# Altium schematic symbol library SCH - MCU - ATTINY - MICROCHIP ATTINY427 VQFN24.SchLib: 1 symbol
Pins are listed as number, name and electrical type; pins without a type are passive.

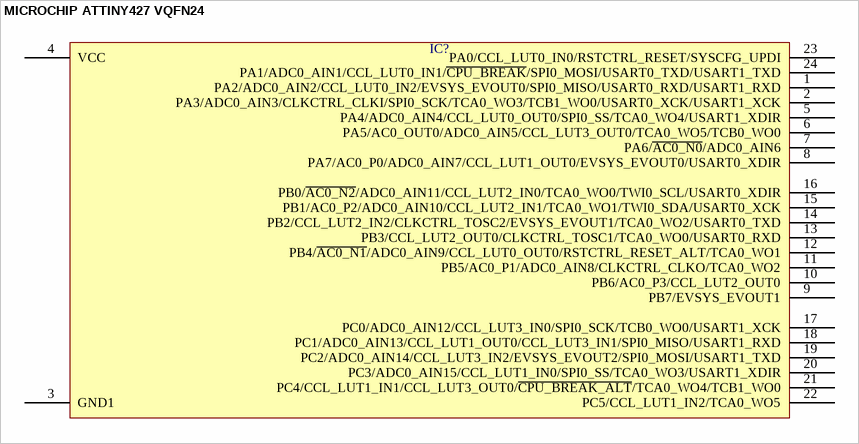
[diagram p0: symbol MICROCHIP ATTINY427 VQFN24]

## MICROCHIP ATTINY427 VQFN24
designator IC?  (value not drawn)
pins: 1 PA2/ADC0_AIN2/CCL_LUT0_IN2/EVSYS_EVOUT0/SPI0_MISO/USART0_RXD/USART1_RXD, 2 PA3/ADC0_AIN3/CLKCTRL_CLKI/SPI0_SCK/TCA0_WO3/TCB1_WO0/USART0_XCK/USART1_XCK, 3 GND1, 4 VCC, 5 PA4/ADC0_AIN4/CCL_LUT0_OUT0/SPI0_SS/TCA0_WO4/USART1_XDIR, 6 PA5/AC0_OUT0/ADC0_AIN5/CCL_LUT3_OUT0/TCA0_WO5/TCB0_WO0, 7 PA6/~{AC0_N0}/ADC0_AIN6, 8 PA7/AC0_P0/ADC0_AIN7/CCL_LUT1_OUT0/EVSYS_EVOUT0/USART0_XDIR, 9 PB7/EVSYS_EVOUT1, 10 PB6/AC0_P3/CCL_LUT2_OUT0, 11 PB5/AC0_P1/ADC0_AIN8/CLKCTRL_CLKO/TCA0_WO2, 12 PB4/~{AC0_N1}/ADC0_AIN9/CCL_LUT0_OUT0/RSTCTRL_RESET_ALT/TCA0_WO1, 13 PB3/CCL_LUT2_OUT0/CLKCTRL_TOSC1/TCA0_WO0/USART0_RXD, 14 PB2/CCL_LUT2_IN2/CLKCTRL_TOSC2/EVSYS_EVOUT1/TCA0_WO2/USART0_TXD, 15 PB1/AC0_P2/ADC0_AIN10/CCL_LUT2_IN1/TCA0_WO1/TWI0_SDA/USART0_XCK, 16 PB0/~{AC0_N2}/ADC0_AIN11/CCL_LUT2_IN0/TCA0_WO0/TWI0_SCL/USART0_XDIR, 17 PC0/ADC0_AIN12/CCL_LUT3_IN0/SPI0_SCK/TCB0_WO0/USART1_XCK, 18 PC1/ADC0_AIN13/CCL_LUT1_OUT0/CCL_LUT3_IN1/SPI0_MISO/USART1_RXD, 19 PC2/ADC0_AIN14/CCL_LUT3_IN2/EVSYS_EVOUT2/SPI0_MOSI/USART1_TXD, 20 PC3/ADC0_AIN15/CCL_LUT1_IN0/SPI0_SS/TCA0_WO3/USART1_XDIR, 21 PC4/CCL_LUT1_IN1/CCL_LUT3_OUT0/~{CPU_BREAK_ALT}/TCA0_WO4/TCB1_WO0, 22 PC5/CCL_LUT1_IN2/TCA0_WO5, 23 PA0/CCL_LUT0_IN0/RSTCTRL_RESET/SYSCFG_UPDI, 24 PA1/ADC0_AIN1/CCL_LUT0_IN1/~{CPU_BREAK}/SPI0_MOSI/USART0_TXD/USART1_TXD